# EAGLE library part CAZ_24PWM_DRIVER_MINIMAL (library caz_lib)
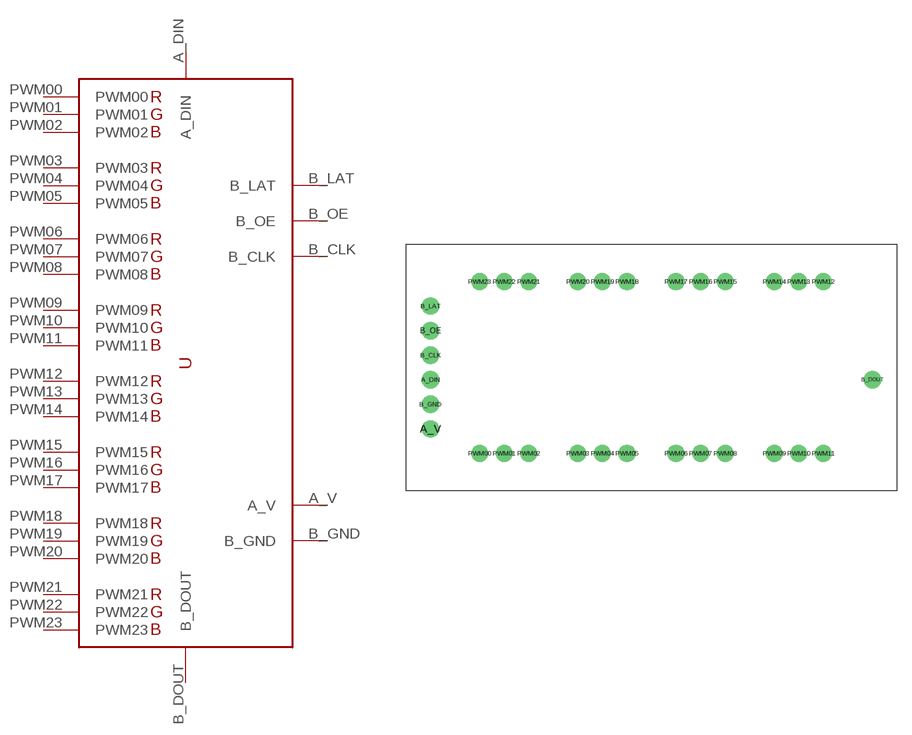
[diagram p2: symbol with the pads of CAZ_24PWM_DRIVER_MINIMAL; footprint CAZ_24PWM_DRIVER_MINIMAL]

Designator prefix -

## CAZ_24PWM_DRIVER_MINIMAL  [CAZ_24PWM_DRIVER_MINIMAL]
A_DIN  A_DIN
A_V  A_V
B_CLK  B_CLK
B_DOUT  B_DOUT
B_GND  B_GND
B_LAT  B_LAT
B_OE  B_OE
PWM00  PWM00
PWM01  PWM01
PWM02  PWM02
PWM03  PWM03
PWM04  PWM04
PWM05  PWM05
PWM06  PWM06
PWM07  PWM07
PWM08  PWM08
PWM09  PWM09
PWM10  PWM10
PWM11  PWM11
PWM12  PWM12
PWM13  PWM13
PWM14  PWM14
PWM15  PWM15
PWM16  PWM16
PWM17  PWM17
PWM18  PWM18
PWM19  PWM19
PWM20  PWM20
PWM21  PWM21
PWM22  PWM22
PWM23  PWM23

## Footprint CAZ_24PWM_DRIVER_MINIMAL (pad centres in mm)
drill 1.016 pad 1.778: A_DIN -22.86,-1.27; A_V -22.86,-6.35; B_CLK -22.86,1.27; B_DOUT 22.86,-1.27; B_GND -22.86,-3.81; B_LAT -22.86,6.35; B_OE -22.86,3.81; PWM00 -17.78,-8.89; PWM01 -15.24,-8.89; PWM02 -12.7,-8.89; PWM03 -7.62,-8.89; PWM04 -5.08,-8.89; PWM05 -2.54,-8.89; PWM06 2.54,-8.89; PWM07 5.08,-8.89; PWM08 7.62,-8.89; PWM09 12.7,-8.89; PWM10 15.24,-8.89; PWM11 17.78,-8.89; PWM12 17.78,8.89; PWM13 15.24,8.89; PWM14 12.7,8.89; PWM15 7.62,8.89; PWM16 5.08,8.89; PWM17 2.54,8.89; PWM18 -2.54,8.89; PWM19 -5.08,8.89; PWM20 -7.62,8.89; PWM21 -12.7,8.89; PWM22 -15.24,8.89; PWM23 -17.78,8.89